# Altium footprint library KF33BD.PCBLIB: 2 footprints
Each footprint in its own frame and in the unit in brackets; x right, y up, seen from the top. Pads: shape width x height; smd on the part's side, far side on the other; paste and mask are expansions set on the pad; w line width, h text height; cw(c..) or ccw(c..) is an arc to the next point about the centre after c.
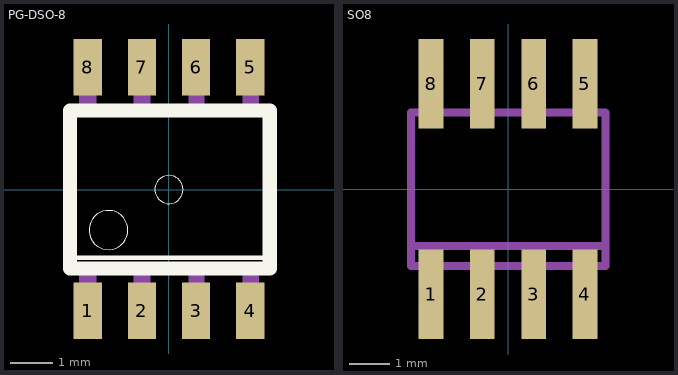
[diagram p0: the footprints below, top view; thin cyan lines are the x and y axes]

## PG-DSO-8 [mil]
pads (8):
  rect 26x52 smd: 1(-75,-112.01) 2(-25,-112.01) 3(25,-112.01) 4(75,-112.01) 5(75,113) 6(25,113) 7(-25,113) 8(-75,113)
Top Overlay:
  circle w0: c0,0 r13
  circle w0: c-55.91,-37.4 r18
  lines w4: -91.54,-62.99 93,-62.99
  lines w13: -91.54,-72.83 93,-72.83 93,-62.99 93,73 -91.54,73 -91.54,-62.99 -91.54,-72.83
Mechanical 16:
  rectangle: -82.87,-118.11 -67.13,-77.76
  rectangle: -32.87,-118.11 -17.13,-77.76
  rectangle: 18,-118.11 33,-77.76
  rectangle: 68,-118.11 83,-77.76
  region: 83,119 68,119 68,78 83,78
  region: 33,119 18,119 18,78 33,78
  region: -17.13,119 -32.87,119 -32.87,78 -17.13,78
  region: -67.13,119 -82.87,119 -82.87,78 -67.13,78
  rectangle: -82.87,-118.11 -67.13,-77.76
  rectangle: -32.87,-118.11 -17.13,-77.76
  rectangle: 18,-118.11 33,-77.76
  rectangle: 68,-118.11 83,-77.76

## SO8 [mil]
pads (8):
  rect 24x87 smd: 1(-75,-102.36) 2(-25,-102.36) 3(25,-102.36) 4(75,-102.36) 5(75,103) 6(25,103) 7(-25,103) 8(-75,103)
Mechanical 16:
  rectangle: -84.65,-122.05 -65.35,-78.74
  rectangle: -34.65,-122.05 -15.35,-78.74
  rectangle: 16,-122.05 35,-78.74
  rectangle: 66,-122.05 85,-78.74
  rectangle: 66,79 85,123
  rectangle: 16,79 35,123
  rectangle: -34.65,79 -15.35,123
  rectangle: -84.65,79 -65.35,123
  lines w8: -94.49,-55.12 -94.49,-74.8 95,-74.8 95,-55.12 ; -94.49,-55.12 -94.49,75 95,75 95,-55.12 ; -94.49,-55.12 95,-55.12